# EAGLE library part USBLC6-2 (library lightmeter)
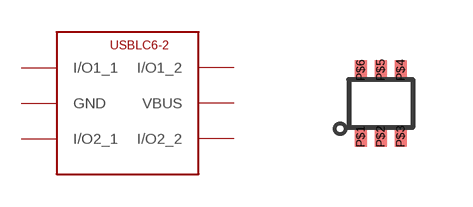
[diagram p14: symbol with the pads of SOT666; footprint SOT666]

Designator prefix -

## USBLC6-2  [SOT666]
P$1  I/O1_1
P$2  GND
P$3  I/O2_1
P$4  I/O2_2
P$5  VBUS
P$6  I/O1_2

## Footprint SOT666 (pad centres in mm)
smd 0.3 x 0.508: P$1 -0.5,-0.83; P$2 0,-0.83; P$3 0.5,-0.83; P$4 0.5,0.83; P$5 0,0.83; P$6 -0.5,0.83